# Altium schematic symbol library B105digital_ic.SchLib: 36 symbols (part 1 of 4)
Pins are listed as number, name and electrical type; pins without a type are passive.

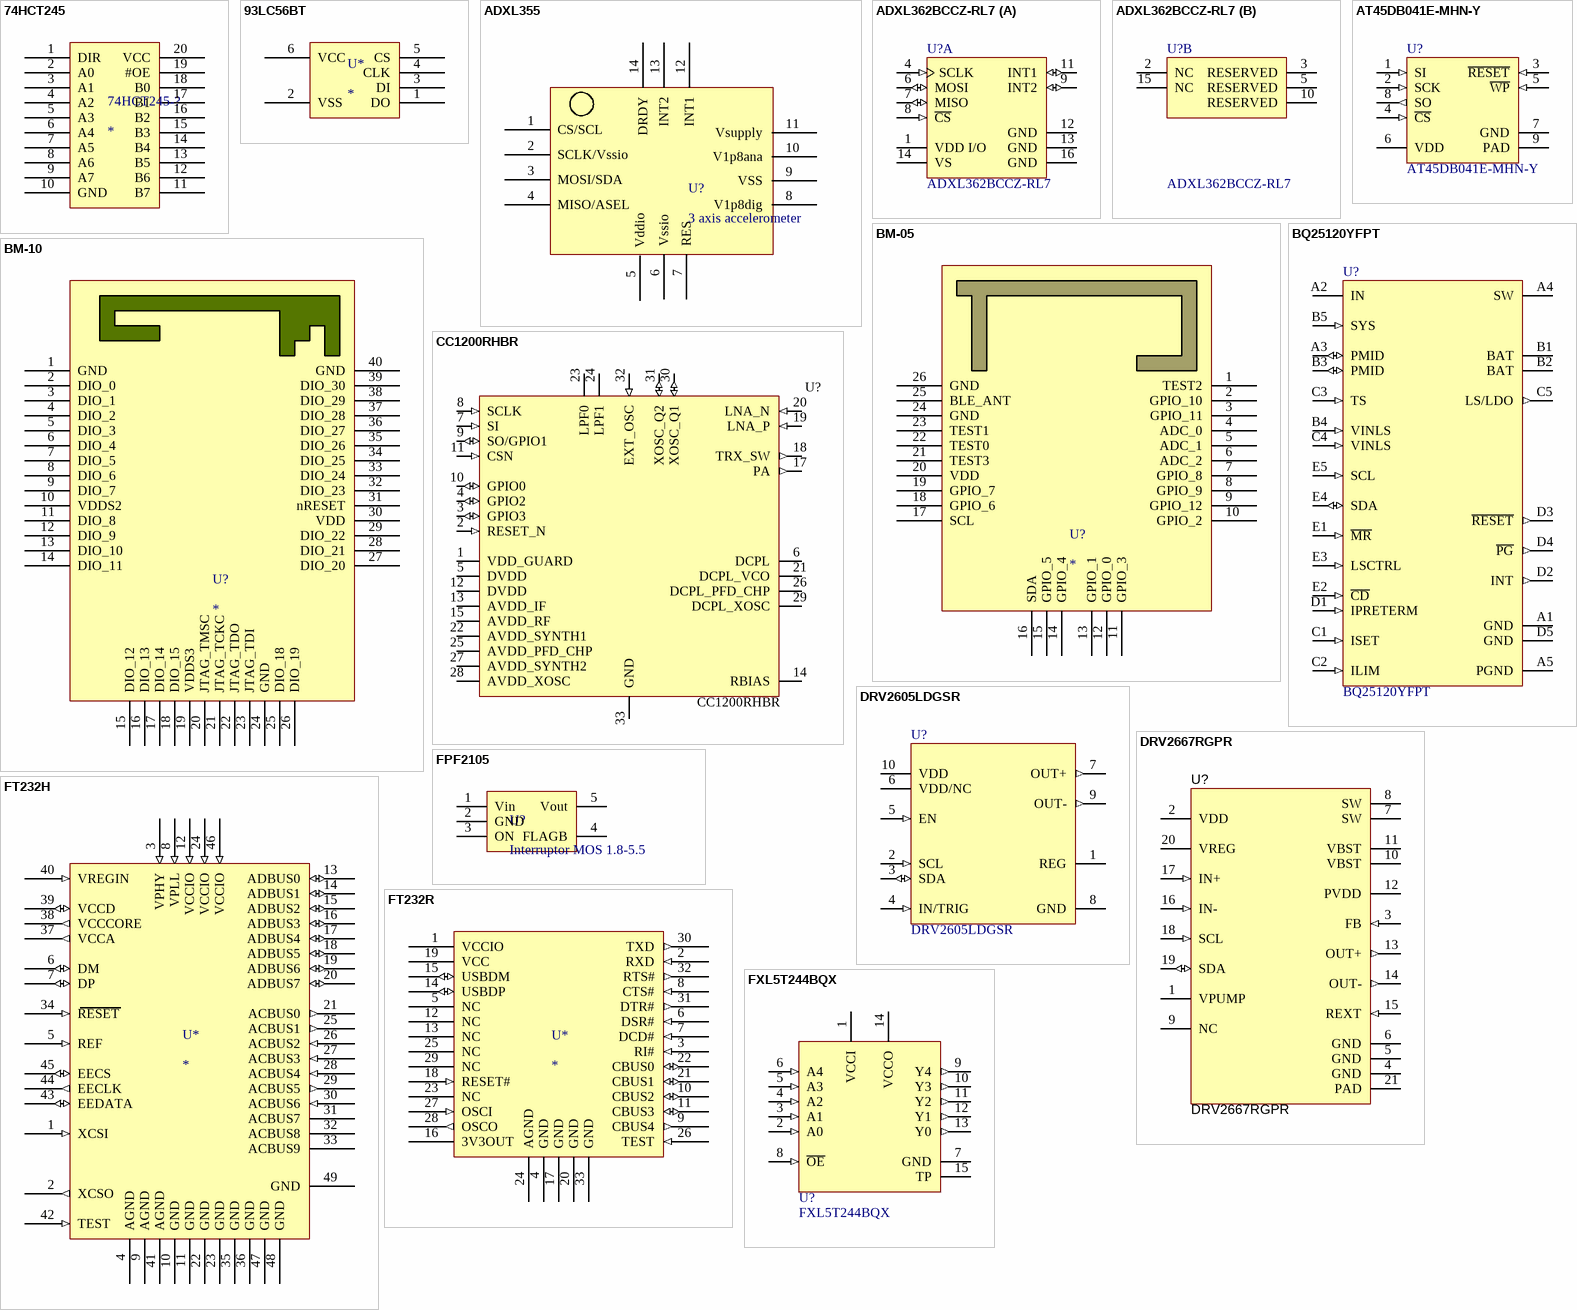
[diagram p0: symbols 74HCT245 to FXL5T244BQX]

## 74HCT245
designator 74HCT245-?
footprint TSSOP-20 (TSOP, 20-Leads, Body 6,50x4,40mm, Pitch 0,65mm, IPC Medium Density)
pins: 1 DIR, 2 A0, 3 A1, 4 A2, 5 A3, 6 A4, 7 A5, 8 A6, 9 A7, 10 GND, 11 B7, 12 B6, 13 B5, 14 B4, 15 B3, 16 B2, 17 B1, 18 B0, 19 #OE, 20 VCC

## 93LC56BT
designator U*
footprint 93LC56BT-I/OT (SOT23, 6-Leads, Body 2,90x2,70mm, Pitch 0,95mm, IPC Medium Density)
pins: 1 DO, 2 VSS, 3 DI, 4 CLK, 5 CS, 6 VCC

## ADXL355
designator U?, comment 3 axis accelerometer
footprint LCC-14
pins: 1 CS/SCL, 2 SCLK/Vssio, 3 MOSI/SDA, 4 MISO/ASEL, 5 Vddio, 6 Vssio, 7 RES, 8 V1p8dig, 9 VSS, 10 V1p8ana, 11 Vsupply, 12 INT1, 13 INT2, 14 DRDY

## ADXL362BCCZ-RL7
designator U?
Micropower, 3-Axis, +/-2 g / +/-4 g / +/-8 g Digital Output MEMS Accelerometer with 200 Hz BW, Industrial, 16-pin LGA, Reel; Manufacturer: Analog Devices; # of Axes: 3; -3dB Bandwidth: 200 Hz; Sensitivity: 1/2/4 mg/LSB; Supply Current: 1.8 uA; Voltage Supply (V): 1.6 to 3.5; Axis: X, Y, Z; Acceleration Range: ±2g, 4g, 8g; Sensitivity (LSB/g): 1 (±2g) ~ 4 (±8g); Bandwidth: 6.25Hz ~ 400Hz; Voltage - Supply: 1.6 V ~ 3.5 V; DatasheetVersion: Rev. B; PackageVersion: 10-23-2012-A, 10/2012; PackageReference: CC-16-4; PackageDescription: 16-Pin Land Grid Array, 3.25 x 3 mm Body, 0.5 mm Pitch; Supplier 1: Digi-Key; Supplier Part Number 1: ADXL362BCCZ-RL7CT-ND; Supplier 2: Mouser; Supplier Part Number 2: 584-ADXL362BCCZ-R7; Supplier 3: Farnell; Supplier Part Number 3: 2377129; Output Type: Digital; Packing: Reel; Mounting Technology: Surface Mount; ComponentLink1Description: Manufacturer URL; ComponentLink1URL: http://www.analog.com/en/index.html; ComponentLink2Description: Datasheet; ComponentLink2URL: http://www.analog.com/static/imported-files/data_sheets/ADXL362.pdf; ComponentLink3Description: Package Specification; ComponentLink3URL: http:/www.analog.com/static/imported-files/packages/PKG_PDF/LGA(CC)/CC_16_4.pdf; ComponentLink4Description: Product URL; ComponentLink4URL: http://www.analog.com/en/mems-sensors/mems-inertial-sensors/adxl362/products/product.html; Manufacturer Part Number: ADXL362BCCZ-RL7; RoHS: Not Applicable; Category: Sensors, Transducers; Stock 1: 6071; Pricing 1: 1=9.72, 10=8.781, 100=7.2696, 500=6.33024 (EUR); Packaging: Cut Tape (CT); Part Status: Active; Type: Digital; Sensitivity (mV/g): -; Features: Sleep Mode, Temperature Sensor; Operating Temperature: -40°C ~ 85°C (TA); Mounting Type: Surface Mount; Package / Case: 16-TFLGA; Supplier Device Package: 16-LGA (3x3.25); ComponentLink5URL: http://www.analog.com/media/en/technical-documentation/data-sheets/ADXL362.pdf; ComponentLink5Description: http://www.analog.com/media/en/technical-documentation/data-sheets/ADXL362.pdf
footprint ADI-CC-16-4_N (QFN, 16-Leads, Body 3.25x3mm, Pitch 0.5mm, IPC Medium Density)
footprint ADI-CC-16-4_L (QFN, 16-Leads, Body 3.25x3mm, Pitch 0.5mm, IPC High Density)
footprint ADI-CC-16-4_M (QFN, 16-Leads, Body 3.25x3mm, Pitch 0.5mm, IPC Low Density)
part A pins: 1 VDD I/O (power) "Supply Voltage for Digital I/O.", 4 SCLK (in) "SPI Communications Clock.", 6 MOSI (io) "Master Output, Slave Input. SPI serial data input.", 7 MISO (io) "Master Input, Slave Output. SPI serial data output.", 8 ~{CS} (in) "SPI Chip Select, Active Low. Must be low during SPI communications.", 9 INT2 (io) "Interrupt 2 Output. INT2 also serves as an input for synchronized sampling.", 11 INT1 (io) "Interrupt 1 Output. INT1 also serves as an input for external clocking.", 12 GND (power) "Ground. This pin must be grounded.", 13 GND (power) "Ground. This pin must be grounded.", 14 VS (power) "Supply Voltage.", 16 GND (power) "Ground. This pin must be grounded."
part B pins: 2 NC "No Connect. Not internally connected.", 3 RESERVED "Reserved. Can be left unconnected or connected to GND.", 5 RESERVED "Reserved. Can be left unconnected or connected to GND.", 10 RESERVED "Reserved. Can be left unconnected or connected to GND.", 15 NC "No Connect. Not internally connected."

## AT45DB041E-MHN-Y
designator U?
IC FLASH 4MBIT 85MHZ 8UDFN; Manufacturer: Adesto Technologies; Memory Type: DataFLASH; Memory Size: 4M (2048 pages x 264 bytes); Interface: SPI, RapidS; Voltage - Supply: 1.65 V ~ 3.6 V; Supplier 1: Digi-Key; Supplier Part Number 1: 1265-1065-ND; RoHS: RoHS Compliant; Category: Integrated Circuits (ICs); Packaging: Tray; Format - Memory: FLASH; Speed: 85MHz; Operating Temperature: -40°C ~ 85°C (TC); Package / Case: 8-UDFN Exposed Pad; Supplier Device Package: 8-UDFN (5x6); ComponentLink1URL: http://www.adestotech.com/wp-content/uploads/doc8783.pdf; ComponentLink1Description: http://www.adestotech.com/wp-content/uploads/doc8783.pdf; Supplier 2: Mouser; Supplier Part Number 2: 988-AT45DB041E-MHN-Y; Manufacturer Part Number: AT45DB041E-MHN-Y
footprint DFNS-MF8_PS (SON, 8-Leads, Body 5x6mm, Pitch 1.27mm)
pins: 1 SI (in), 2 SCK (in), 3 ~{RESET} (in), 4 ~{CS} (in), 5 ~{WP} (in), 6 VDD (power), 7 GND (power), 8 SO (out), 9 PAD (power)

## BM-05
designator U?
footprint BM_05 (Bluetooth module)
pins: 1 TEST2, 2 GPIO_10, 3 GPIO_11, 4 ADC_0, 5 ADC_1, 6 ADC_2, 7 GPIO_8, 8 GPIO_9, 9 GPIO_12, 10 GPIO_2, 11 GPIO_3, 12 GPIO_0, 13 GPIO_1, 14 GPIO_4, 15 GPIO_5, 16 SDA, 17 SCL, 18 GPIO_6, 19 GPIO_7, 20 VDD, 21 TEST3, 22 TEST0, 23 TEST1, 24 GND, 25 BLE_ANT, 26 GND

## BM-10
designator U?
footprint BM_10 (Bluetooth module)
pins: 1 GND, 2 DIO_0, 3 DIO_1, 4 DIO_2, 5 DIO_3, 6 DIO_4, 7 DIO_5, 8 DIO_6, 9 DIO_7, 10 VDDS2, 11 DIO_8, 12 DIO_9, 13 DIO_10, 14 DIO_11, 15 DIO_12, 16 DIO_13, 17 DIO_14, 18 DIO_15, 19 VDDS3, 20 JTAG_TMSC, 21 JTAG_TCKC, 22 JTAG_TDO, 23 JTAG_TDI, 24 GND, 25 DIO_18, 26 DIO_19, 27 DIO_20, 28 DIO_21, 29 DIO_22, 30 VDD, 31 nRESET, 32 DIO_23, 33 DIO_24, 34 DIO_25, 35 DIO_26, 36 DIO_27, 37 DIO_28, 38 DIO_29, 39 DIO_30, 40 GND

## BQ25120YFPT
designator U?
IC LI-ION CHARGE MGMT 25DSBGA; Manufacturer: Texas Instruments; Battery Chemistry: Lithium-Ion; Number of Cells: 1; Current - Charging: Constant - Programmable; Programmable Features: Current; Fault Protection: Over Temperature, Over Voltage, Short Circuit; Charge Current - Max: 300mA; Battery Pack Voltage: 4.2V; Voltage - Supply (Max): 5.5V; Interface: I²C; ComponentLink1Description: http://www.ti.com/lit/ds/symlink/bq25120.pdf; ComponentLink1URL: http://www.ti.com/lit/ds/symlink/bq25120.pdf; RoHS: RoHS Compliant; Supplier 1: Digi-Key; Supplier 2: Mouser; Supplier 3: Farnell; Supplier Part Number 1: 296-42554-1-ND; Supplier Part Number 2: 595-BQ25120YFPT; Supplier Part Number 3: 2507089; Manufacturer Part Number: BQ25120YFPT; Category: Integrated Circuits (ICs); Stock 1: 4209; Pricing 1: 1=4.27, 10=3.833, 100=3.1398 (EUR); Packaging: Cut Tape (CT); Part Status: Active; Operating Temperature: -40°C ~ 125°C (TJ); Package / Case: 25-XFBGA, DSBGA; Supplier Device Package: 25-DSBGA
footprint YFF0025AWAW
pins: A1 GND (power), A2 IN (power), A3 PMID (io), A4 SW (power), A5 PGND (power), B1 BAT (power), B2 BAT (power), B3 PMID (io), B4 VINLS (in), B5 SYS (in), C1 ISET (in), C2 ILIM (in), C3 TS (in), C4 VINLS (in), C5 LS/LDO (out), D1 IPRETERM (in), D2 INT (out), D3 ~{RESET} (out), D4 ~{PG} (out), D5 GND (power), E1 ~{MR} (in), E2 ~{CD} (in), E3 LSCTRL (in), E4 SDA (io), E5 SCL (in)

## CC1200RHBR
designator U?
SimpleLink CC1200 Low Power, High Performance RF Transceiver; Manufacturer: Texas Instruments; RF Family/Standard: General ISM < 1GHz; Modulation: 2FSK, 2GFSK, 4FSK, 4GFSK, MSK, OOK; Frequency: 164MHz ~ 190MHz, 410MHz ~ 475MHz, 820MHz ~ 950MHz; Data Rate (Max): 1.25Mbps; Power - Output: 16dBm; Sensitivity: -123dBm; Serial Interfaces: SPI; Voltage - Supply: 2 V ~ 3.6 V; Manufacturer Part Number: CC1200RHBR; RoHS: RoHS Compliant; Operating Temperature: -40°C ~ 85°C; ComponentLink1URL: http://www.ti.com/lit/ds/symlink/cc1200.pdf; ComponentLink1Description: http://www.ti.com/lit/ds/symlink/cc1200.pdf; Supplier 1: Digi-Key; Supplier Part Number 1: 296-38892-1-ND; Supplier 2: Mouser; Supplier Part Number 2: 595-CC1200RHBR
footprint RHB32-3450X3450TP (QFN, 32-Leads, Body 5x5mm, Pitch 0.5mm, Thermal Pad 3.45x3.45mm, TI Recommended)
pins: 1 VDD_GUARD (power), 2 RESET_N (in), 3 GPIO3 (io), 4 GPIO2 (io), 5 DVDD (power), 6 DCPL (power), 7 SI (in), 8 SCLK (in), 9 SO/GPIO1 (io), 10 GPIO0 (io), 11 CSN (in), 12 DVDD (power), 13 AVDD_IF (power), 14 RBIAS, 15 AVDD_RF (power), 17 PA (out), 18 TRX_SW (out), 19 LNA_P (in), 20 LNA_N (in), 21 DCPL_VCO (power), 22 AVDD_SYNTH1 (power), 23 LPF0 (power), 24 LPF1 (power), 25 AVDD_PFD_CHP (power), 26 DCPL_PFD_CHP (power), 27 AVDD_SYNTH2 (power), 28 AVDD_XOSC (power), 29 DCPL_XOSC (power), 30 XOSC_Q1 (io), 31 XOSC_Q2 (io), 32 EXT_OSC (in), 33 GND (power)

## DRV2605LDGSR
designator U?
NEXT GEN DRV260X LRA/ERM DRIVER; Manufacturer: Texas Instruments; Motor Type - AC, DC: ERM, LRA; Function: Driver - Fully Integrated, Control and Power Stage; Output Configuration: Half Bridge (2); Interface: I²C; Voltage - Supply: 2 V ~ 5.5 V; ComponentLink1Description: http://www.ti.com/lit/ds/symlink/drv2605l.pdf; ComponentLink1URL: http://www.ti.com/lit/ds/symlink/drv2605l.pdf; RoHS: RoHS Compliant; Manufacturer Part Number: DRV2605LDGSR; Supplier 1: Digi-Key; Supplier Part Number 1: 296-40032-1-ND; Supplier 2: Mouser; Supplier Part Number 2: 595-DRV2605LDGSR; Category: Integrated Circuits (ICs); Stock 1: 2409; Pricing 1: 1=3.95, 10=3.541, 100=2.9009, 500=2.4695, 1000=2.08271 (EUR); Packaging: Cut Tape (CT); Part Status: Active; Motor Type - Stepper: -; Technology: Power MOSFET; Step Resolution: -; Applications: Haptic Feedback; Current - Output: -; Voltage - Load: 2 V ~ 5.5 V; Operating Temperature: -40°C ~ 150°C (TJ); Mounting Type: Surface Mount; Package / Case: 10-TFSOP, 10-MSOP (0.118", 3.00mm Width); Supplier Device Package: 10-VSSOP; Supplier 3: Farnell; Supplier Part Number 3: 2455129
footprint DGS0010A_N
pins: 1 REG (power), 2 SCL (in), 3 SDA (io), 4 IN/TRIG (in), 5 EN (in), 6 VDD/NC (power), 7 OUT+ (out), 8 GND (power), 9 OUT- (out), 10 VDD (power)

## DRV2667RGPR
designator U?
Piezo Haptic Driver with Boost, Digital Front End, and Internal Waveform Memory, RGP0020D; Alternate Manufacturer: Texas Instruments; Alternate PartNumber: DRV2667RGPT; SymbolCreator: a0412235; CompType: IC; U/M: EA; SymbolVersion: 2012-11-11; PackageReference: RGP0020D; MountType: SMT; ComponentLink1Description: Datasheet Link; ComponentLink1URL: http://www.ti.com/lit/ds/symlink/drv2667.pdf; RoHS: Y; Publisher: Texas Instruments; LatestRevisionDate: 2014-10-31; Manufacturer: Texas Instruments; Manufacturer Part Number: DRV2667RGPR; Supplier 1: Digi-Key; Supplier Part Number 1: 296-40034-1-ND; Supplier 2: Mouser; Supplier Part Number 2: 595-DRV2667RGPR
footprint RGP0020D
footprint RGP0020D_NV
pins: 1 VPUMP (power), 2 VDD (power), 3 FB (in), 4 GND (power), 5 GND (power), 6 GND (power), 7 SW (power), 8 SW (power), 9 NC, 10 VBST (power), 11 VBST (power), 12 PVDD (power), 13 OUT+ (out), 14 OUT- (out), 15 REXT (in), 16 IN- (in), 17 IN+ (in), 18 SCL (in), 19 SDA (io), 20 VREG (power), 21 PAD (power)

## FPF2105
designator U?, comment Interruptor MOS 1.8-5.5
footprint SOT-23-5 (SOT23, 5-Leads, Body 2,93x2,80mm, Pitch 0,95mm, IPC Medium Density)
pins: 1 Vin, 2 GND, 3 ON, 4 FLAGB, 5 Vout

## FT232H
designator U*
footprint FT232HQ (QFN, 48-Leads, Body 8,00x8,00mm, Pitch 0,50mm, Thermal Pad 5,60x5,60mm, IPC Medium Density)
pins: 1 XCSI (in), 2 XCSO (out), 3 VPHY (in), 4 AGND, 5 REF (in), 6 DM (io), 7 DP (io), 8 VPLL (in), 9 AGND, 10 GND, 11 GND, 12 VCCIO (in), 13 ADBUS0 (io), 14 ADBUS1 (io), 15 ADBUS2 (io), 16 ADBUS3 (io), 17 ADBUS4 (io), 18 ADBUS5 (io), 19 ADBUS6 (io), 20 ADBUS7 (io), 21 ACBUS0 (out), 22 GND, 23 GND, 24 VCCIO (in), 25 ACBUS1 (out), 26 ACBUS2 (in), 27 ACBUS3 (in), 28 ACBUS4 (in), 29 ACBUS5 (out), 30 ACBUS6 (in), 31 ACBUS7, 32 ACBUS8, 33 ACBUS9, 34 RESET (in), 35 GND, 36 GND, 37 VCCA (out), 38 VCCCORE (out), 39 VCCD (io), 40 VREGIN (in), 41 AGND, 42 TEST (in), 43 EEDATA (io), 44 EECLK (out), 45 EECS (io), 46 VCCIO (in), 47 GND, 48 GND, 49 GND

## FT232R
designator U*
footprint QFN-32 (QFN, 32-Leads, Body 5,00x5,00mm, Pitch 0,50mm, Thermal Pad 3,80x3,80mm, IPC Medium Density)
pins: 1 VCCIO (power), 2 RXD (in), 3 RI# (in), 4 GND, 5 NC, 6 DSR# (in), 7 DCD# (in), 8 CTS# (in), 9 CBUS4 (out), 10 CBUS2 (io), 11 CBUS3 (io), 12 NC, 13 NC, 14 USBDP (io), 15 USBDM (io), 16 3V3OUT, 17 GND, 18 RESET# (in), 19 VCC (power), 20 GND, 21 CBUS1 (io), 22 CBUS0 (io), 23 NC, 24 AGND, 25 NC, 26 TEST (in), 27 OSCI (in), 28 OSCO (out), 29 NC, 30 TXD (out), 31 DTR# (out), 32 RTS# (out), 33 GND

## FXL5T244BQX
designator U?
TRANSLATOR 5BIT DUAL LV 14DQFN; Manufacturer: Fairchild Semiconductor; Translator Type: Voltage Level; Channel Type: Unidirectional; Number of Circuits: 1; Channels per Circuit: 5; Voltage - VCCA: 1.1 V ~ 3.6 V; Output Type: Tri-State, Non-Inverted; Supplier 1: Digi-Key; Supplier Part Number 1: FXL5T244BQXCT-ND; Manufacturer Part Number: FXL5T244BQX; RoHS: RoHS Compliant; Category: Integrated Circuits (ICs); Packaging: Cut Tape (CT); Part Status: Active; Voltage - VCCB: 1.1 V ~ 3.6 V; Input Signal: -; Output Signal: -; Data Rate: -; Operating Temperature: -40°C ~ 85°C (TA); Features: Power-Off Protection; Mounting Type: Surface Mount; Package / Case: 14-WFQFN Exposed Pad; Supplier Device Package: 14-DQFN (3x2.5); ComponentLink1URL: http://www.fairchildsemi.com/datasheets/FX/FXL5T244.pdf; ComponentLink1Description: http://www.fairchildsemi.com/datasheets/FX/FXL5T244.pdf; Supplier 2: Mouser; Supplier Part Number 2: 512-FXL5T244BQX
footprint QFN127P600-12N
pins: 1 VCCI (power), 2 A0 (in), 3 A1 (in), 4 A2 (in), 5 A3 (in), 6 A4 (in), 7 GND (power), 8 ~{OE} (in), 9 Y4 (out), 10 Y3 (out), 11 Y2 (out), 12 Y1 (out), 13 Y0 (out), 14 VCCO (power), 15 TP

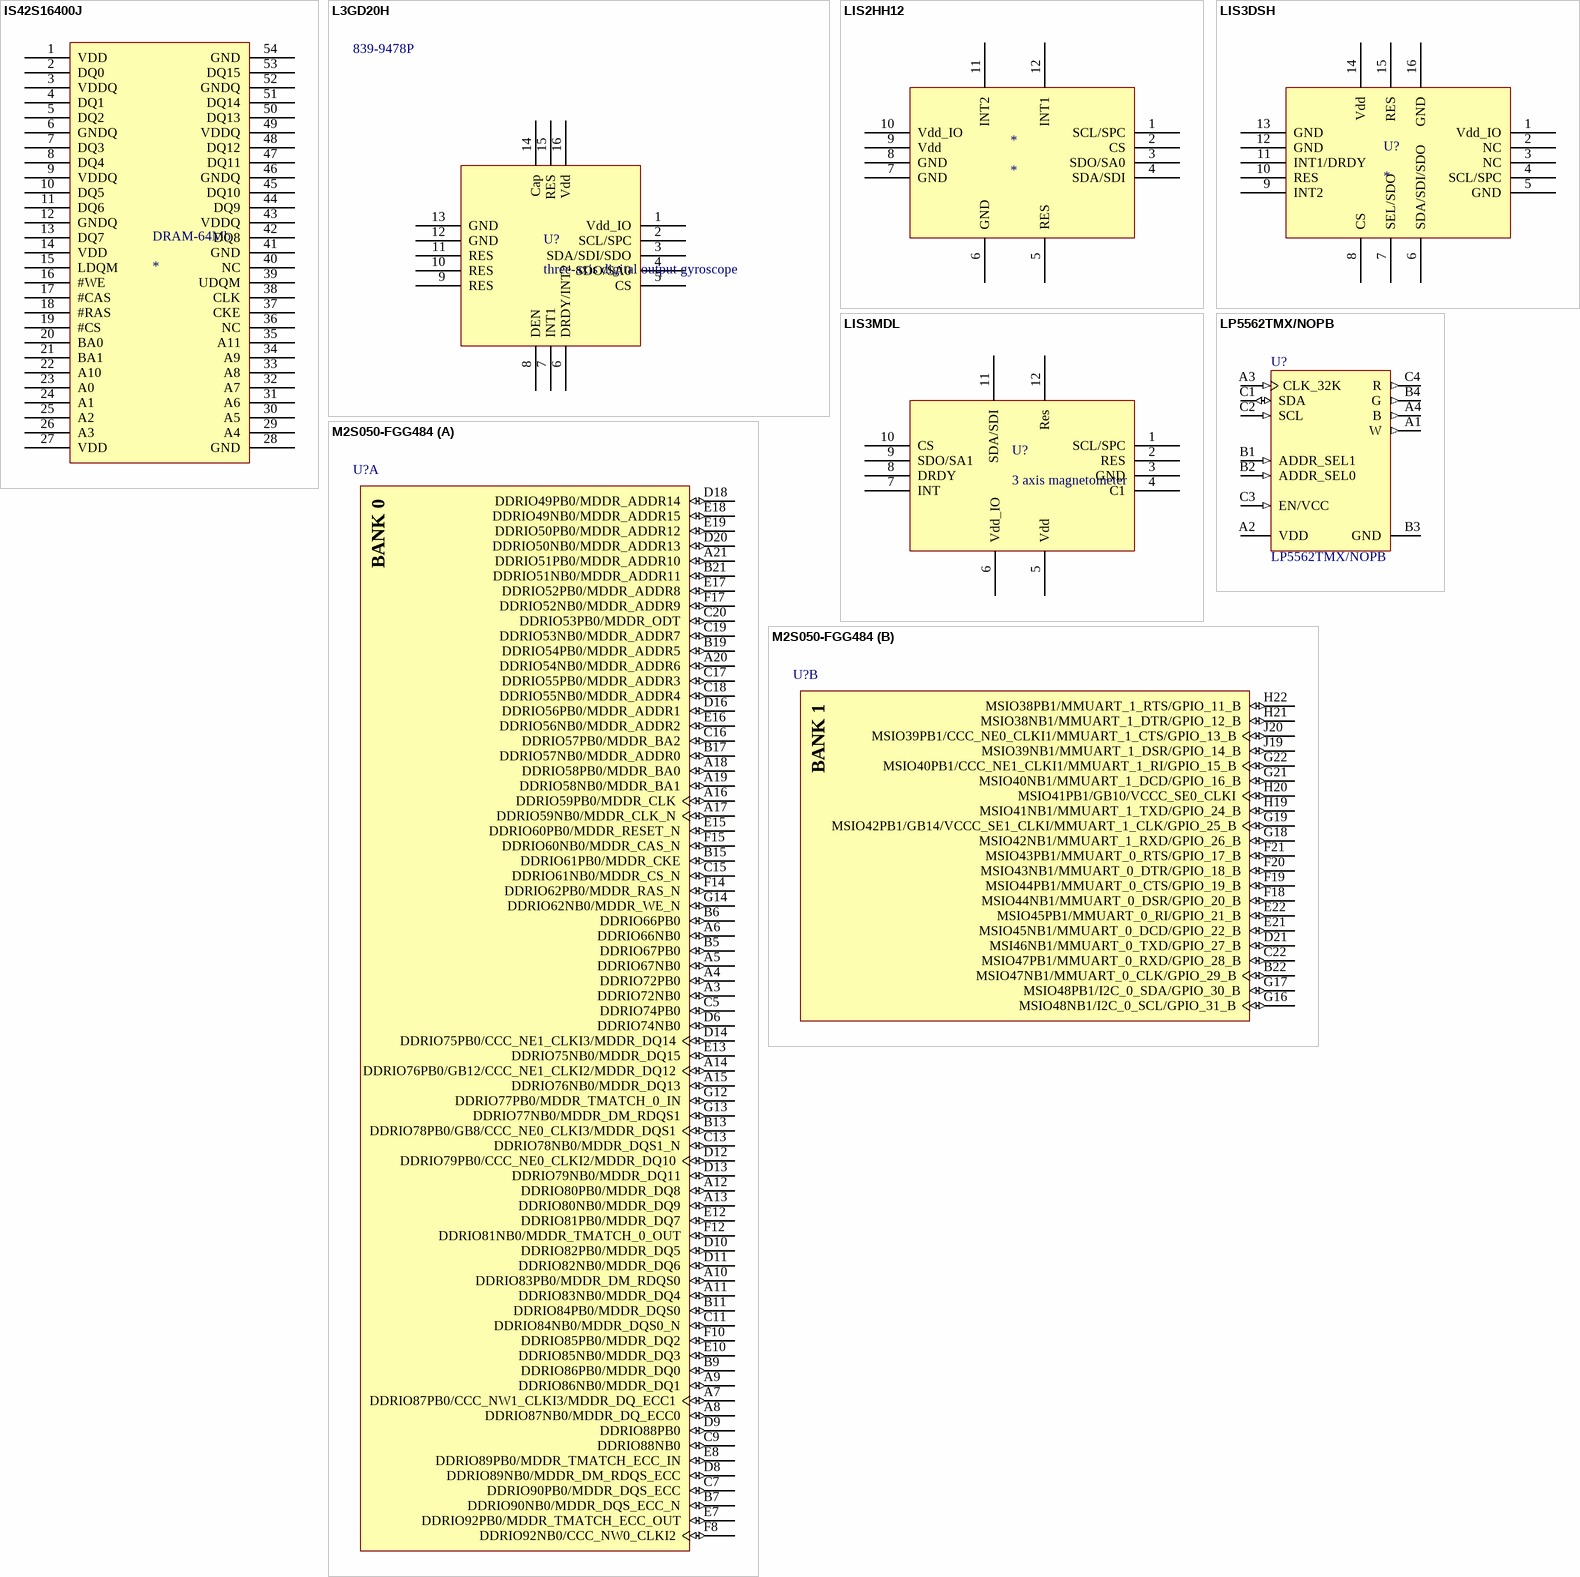
[diagram p1: symbols IS42S16400J to M2S050-FGG484]

## IS42S16400J
designator DRAM-64Mb
footprint TSOP2-54
pins: 1 VDD, 2 DQ0, 3 VDDQ, 4 DQ1, 5 DQ2, 6 GNDQ, 7 DQ3, 8 DQ4, 9 VDDQ, 10 DQ5, 11 DQ6, 12 GNDQ, 13 DQ7, 14 VDD, 15 LDQM, 16 #WE, 17 #CAS, 18 #RAS, 19 #CS, 20 BA0, 21 BA1, 22 A10, 23 A0, 24 A1, 25 A2, 26 A3, 27 VDD, 28 GND, 29 A4, 30 A5, 31 A6, 32 A7, 33 A8, 34 A9, 35 A11, 36 NC, 37 CKE, 38 CLK, 39 UDQM, 40 NC, 41 GND, 42 DQ8, 43 VDDQ, 44 DQ9, 45 DQ10, 46 GNDQ, 47 DQ11, 48 DQ12, 49 VDDQ, 50 DQ13, 51 DQ14, 52 GNDQ, 53 DQ15, 54 GND

## L3GD20H
designator U?, comment three-axis digital output gyroscope  Supplier Part Number 1: 839-9478P
Supplier 1: RS-Components
footprint LGA-16
pins: 1 Vdd_IO, 2 SCL/SPC, 3 SDA/SDI/SDO, 4 SDO/SA0, 5 CS, 6 DRDY/INT2, 7 INT1, 8 DEN, 9 RES, 10 RES, 11 RES, 12 GND, 13 GND, 14 Cap, 15 RES, 16 Vdd

## LIS2HH12
designator *
footprint LGA-12
pins: 1 SCL/SPC, 2 CS, 3 SDO/SA0, 4 SDA/SDI, 5 RES, 6 GND, 7 GND, 8 GND, 9 Vdd, 10 Vdd_IO, 11 INT2, 12 INT1

## LIS3DSH
designator U?
Supplier 1: RS-Components; Supplier Part Number 1: 839-9471
footprint LGA-16
pins: 1 Vdd_IO, 2 NC, 3 NC, 4 SCL/SPC, 5 GND, 6 SDA/SDI/SDO, 7 SEL/SDO, 8 CS, 9 INT2, 10 RES, 11 INT1/DRDY, 12 GND, 13 GND, 14 Vdd, 15 RES, 16 GND

## LIS3MDL
designator U?, comment 3 axis magnetometer
footprint LGA-12
pins: 1 SCL/SPC, 2 RES, 3 GND, 4 C1, 5 Vdd, 6 Vdd_IO, 7 INT, 8 DRDY, 9 SDO/SA1, 10 CS, 11 SDA/SDI, 12 Res

## LP5562TMX/NOPB
designator U?
IC LED DRIVER LINEAR DIM 25.5MA; Manufacturer: Texas Instruments; Internal Switch(s): Yes; Number of Outputs: 4; Voltage - Supply (Min): 2.7V; Voltage - Supply (Max): 5.5V; Frequency: 256kHz, 558kHz; Dimming: I²C; Supplier 1: Digi-Key; Supplier Part Number 1: 296-39061-1-ND; RoHS: RoHS Compliant; Category: Integrated Circuits (ICs); Packaging: Cut Tape (CT); Type: Linear; Topology: -; Voltage - Output: -; Current - Output / Channel: 25.5mA; Applications: Backlight; Operating Temperature: -40°C ~ 85°C (TA); Mounting Type: Surface Mount; Package / Case: 12-WFBGA, DSBGA; Supplier Device Package: 12-DSBGA; ComponentLink1URL: http://www.ti.com/lit/ds/symlink/lp5562.pdf; ComponentLink1Description: http://www.ti.com/lit/ds/symlink/lp5562.pdf; Supplier 2: Mouser; Supplier Part Number 2: 595-LP5562TMX/NOPB; Manufacturer Part Number: LP5562TMX/NOPB
footprint YFQ
pins: A1 W (out), A2 VDD (power), A3 CLK_32K (in), A4 B (out), B1 ADDR_SEL1 (in), B2 ADDR_SEL0 (in), B3 GND (power), B4 G (out), C1 SDA (io), C2 SCL (in), C3 EN/VCC (in), C4 R (out)

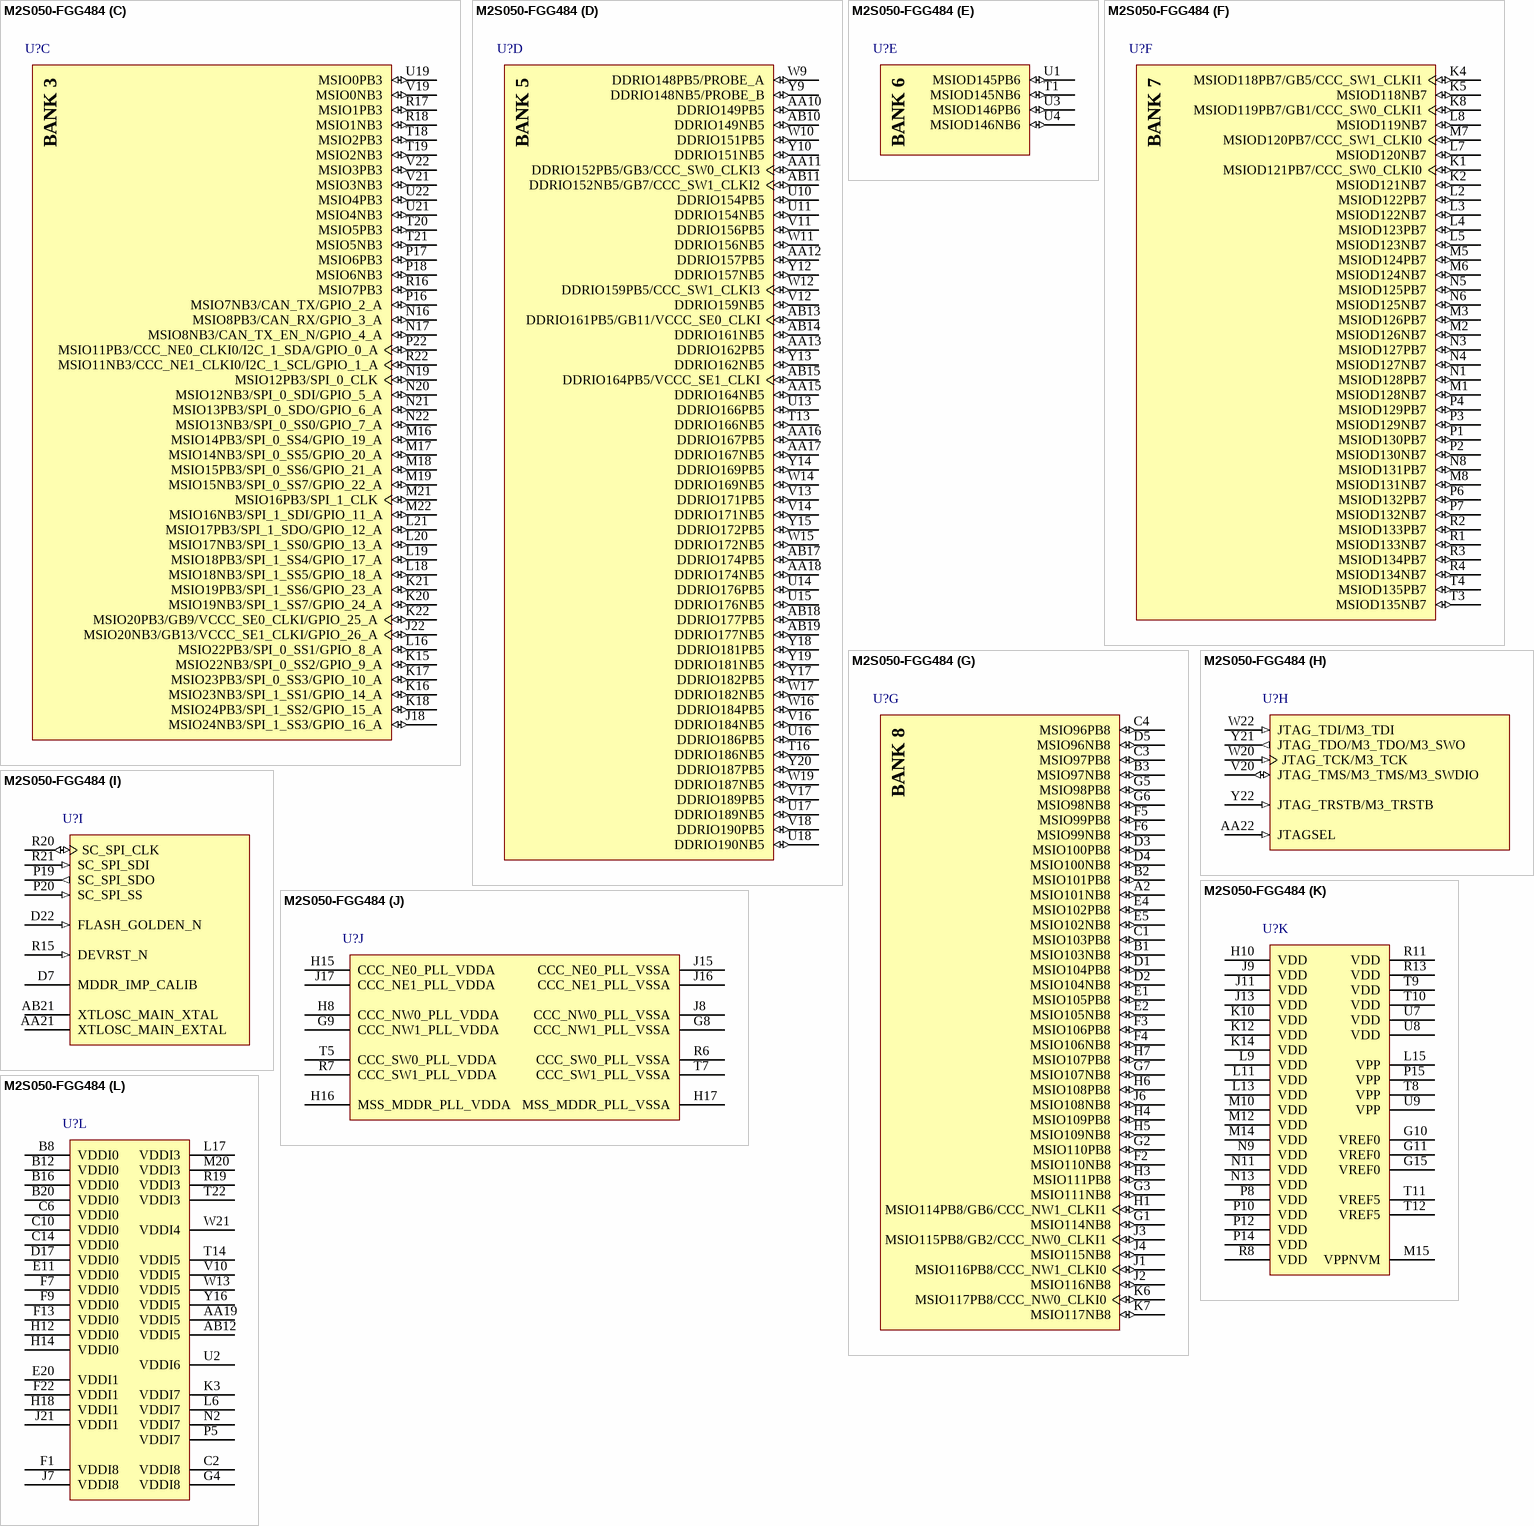
[diagram p2: symbol M2S050-FGG484]

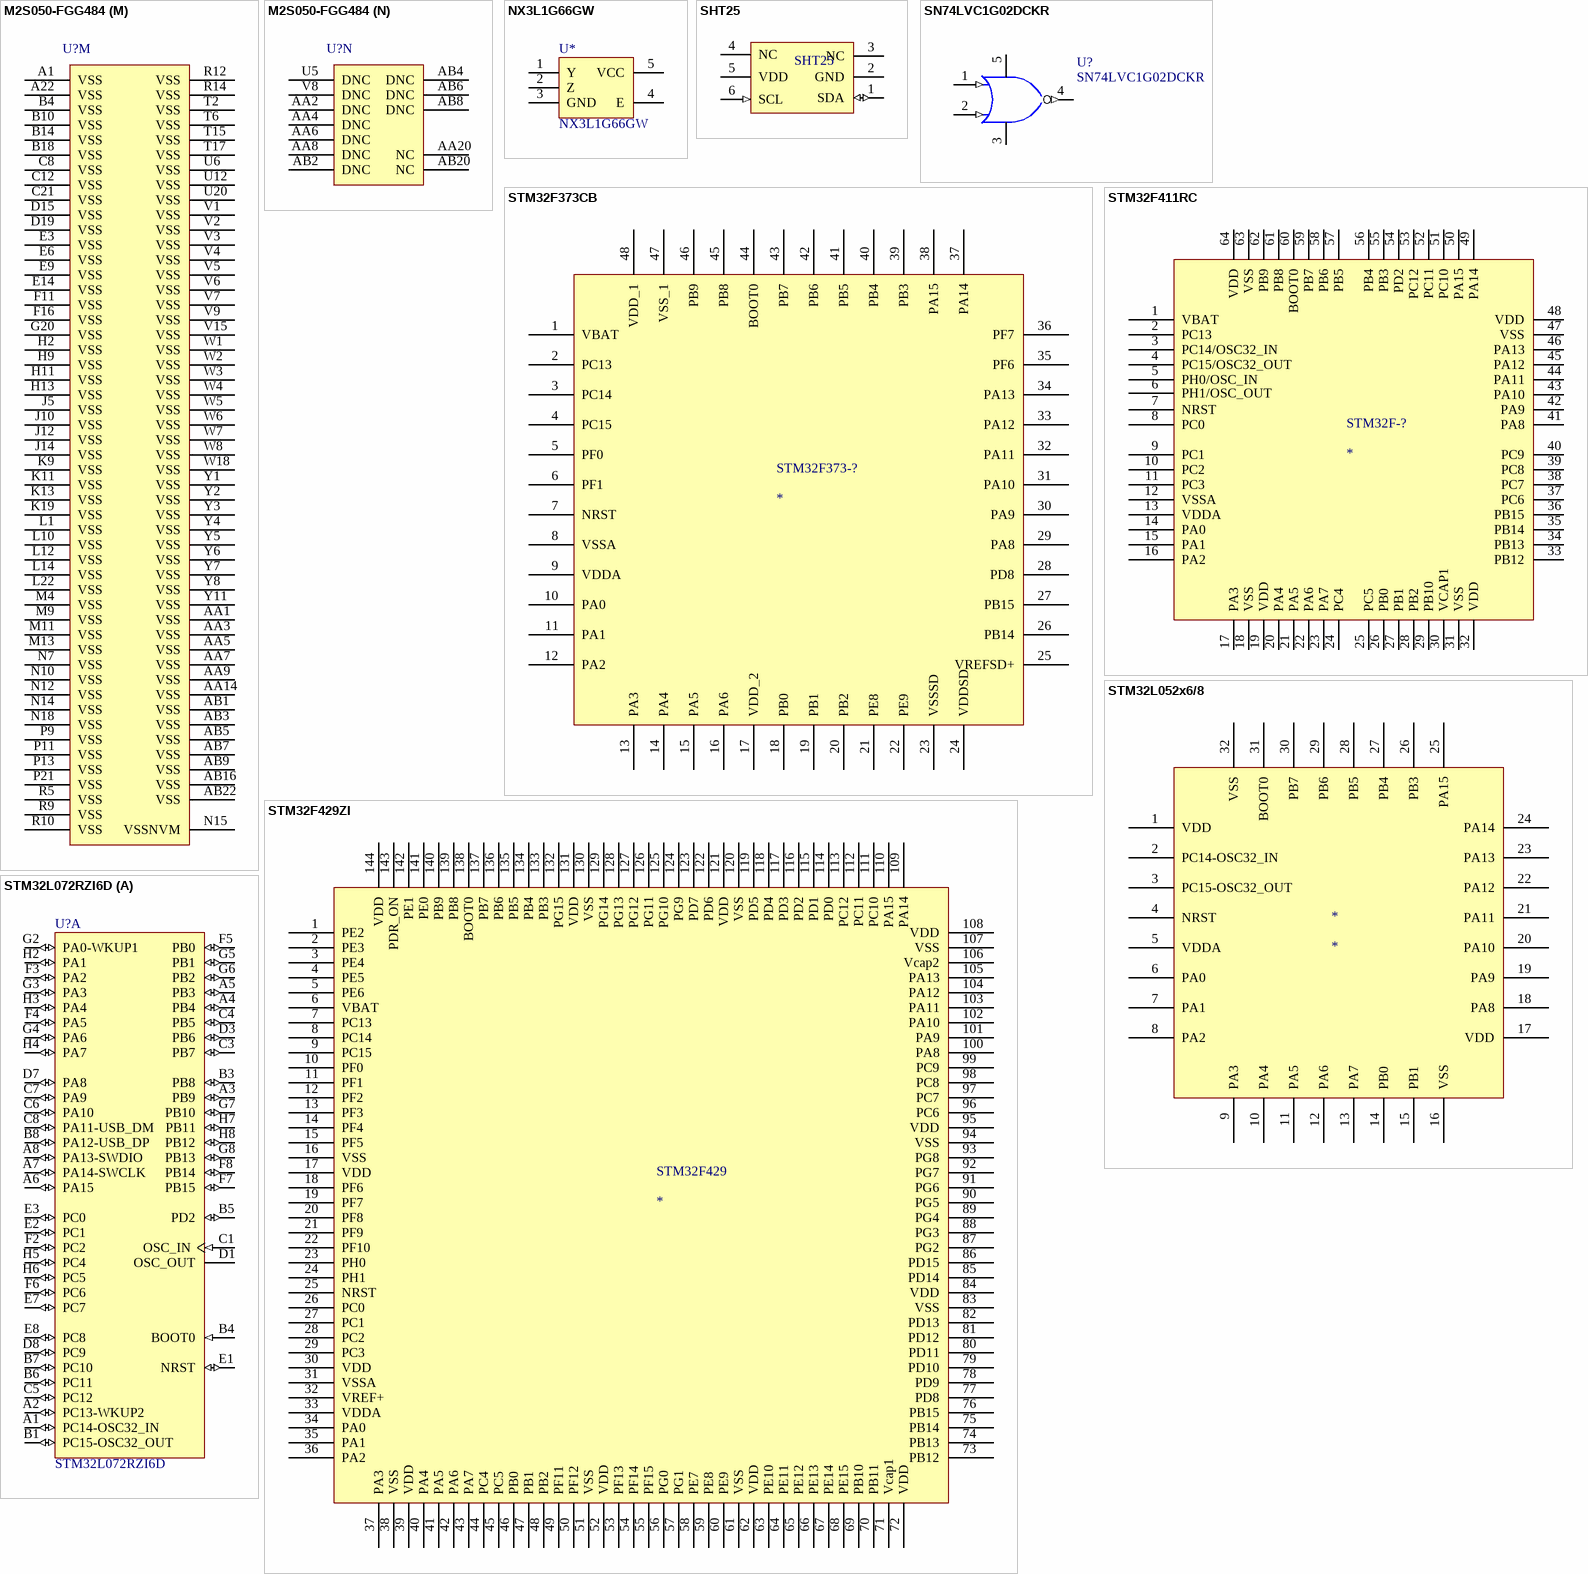
[diagram p3: symbols M2S050-FGG484 to STM32L072RZI6D]